# EAGLE library part AD627 (library anton)
ANALOG DEVICES
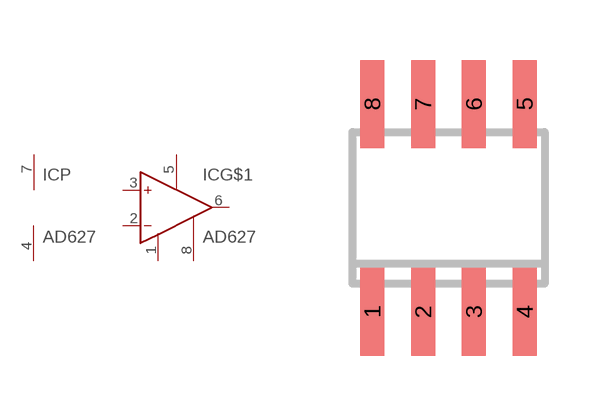
[diagram p0: symbol with the pads of SOIC8; footprint SOIC8]

Designator prefix IC; gates P=PWR+- G$1=OP

## AD627  [SOIC8]
1  G$1:RG1  pas
2  G$1:IN-  in
3  G$1:IN+  in
4  P:V-  pwr
5  G$1:REF
6  G$1:OUT  out
7  P:V+  pwr
8  G$1:RG2  pas

## Footprint SOIC8 (pad centres in mm)
Small Outline IC
smd 0.6 x 2.2: 1 -1.905,-2.6; 2 -0.635,-2.6; 3 0.635,-2.6; 4 1.905,-2.6; 5 1.905,2.6; 6 0.635,2.6; 7 -0.635,2.6; 8 -1.905,2.6